# EAGLE library part LINEAR_LM358 (library pendulum_control_board)
OP AMP also LM158; LM258; LM2904 Source: http://cache.national.com/ds/LM/LM158.pdf
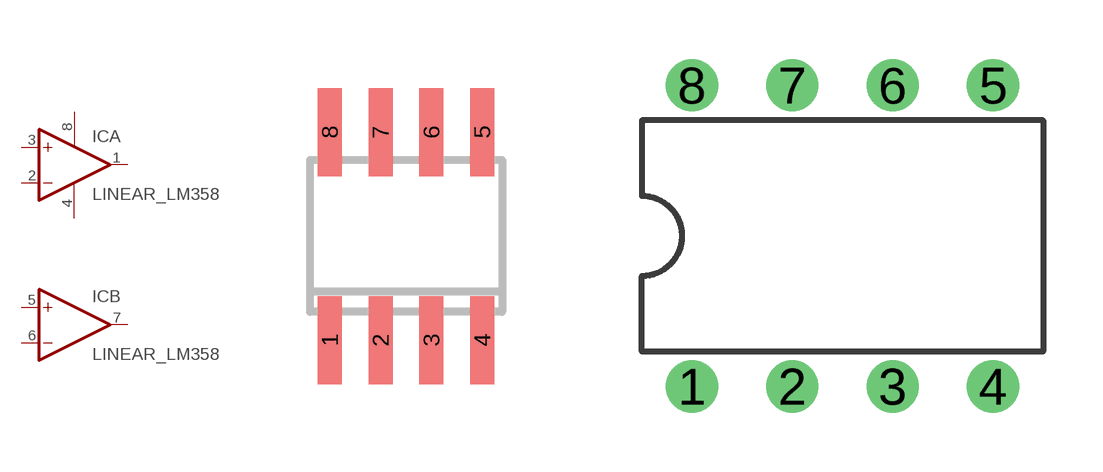
[diagram p11: symbol with the pads of LINEAR_SO08; footprints LINEAR_SO08, LINEAR_DIL08]

Designator prefix IC; gates A=LINEAR_OPAMP B=LINEAR_OPAMP P=LINEAR_PWR+-

## LINEAR_LM358D  [LINEAR_SO08]
1  A:OUT  out
2  A:-IN  in
3  A:+IN  in
4  P:V-  pwr
5  B:+IN  in
6  B:-IN  in
7  B:OUT  out
8  P:V+  pwr

## LINEAR_LM358MX  [LINEAR_SO08]
Pads as for LINEAR_SO08

## LINEAR_LM358N  [LINEAR_DIL08]
Pads as for LINEAR_SO08

## Footprint LINEAR_SO08 (pad centres in mm)
Small Outline Package 8 NS Package M08A
smd 0.6 x 2.2: 1 -1.905,-2.6; 2 -0.635,-2.6; 3 0.635,-2.6; 4 1.905,-2.6; 5 1.905,2.6; 6 0.635,2.6; 7 -0.635,2.6; 8 -1.905,2.6

## Footprint LINEAR_DIL08 (pad centres in mm)
Dual In Line Package
drill 0.813 pad 1.27: 1 -3.81,-3.81; 2 -1.27,-3.81; 3 1.27,-3.81; 4 3.81,-3.81; 5 3.81,3.81; 6 1.27,3.81; 7 -1.27,3.81; 8 -3.81,3.81